# EAGLE library part 111_CUSTOM_PHOENIX_1725724 (library HVIB_v2)
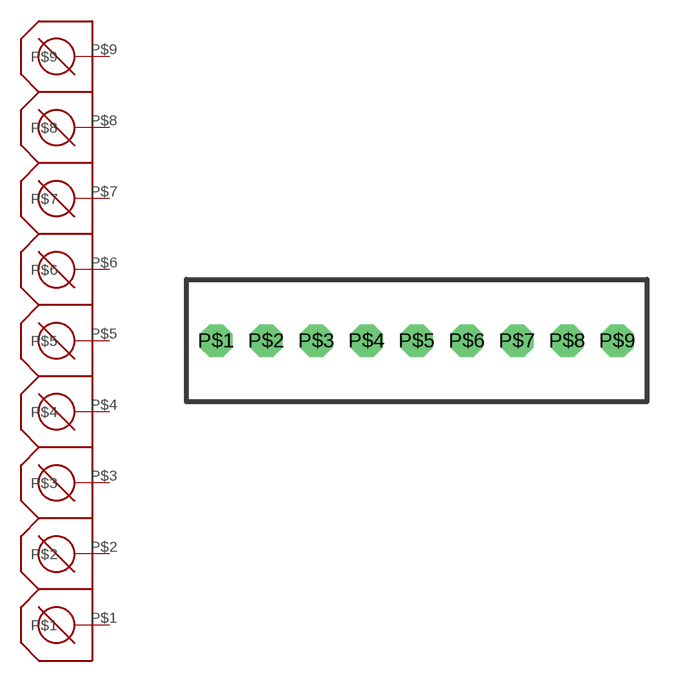
[diagram p0: symbol with the pads of 111_CUSTOM_1725724_FOOT; footprint 111_CUSTOM_1725724_FOOT]

Designator prefix -

## 111_CUSTOM_PHOENIX_1725724  [111_CUSTOM_1725724_FOOT]
P$1  P$1
P$2  P$2
P$3  P$3
P$4  P$4
P$5  P$5
P$6  P$6
P$7  P$7
P$8  P$8
P$9  P$9

## Footprint 111_CUSTOM_1725724_FOOT (pad centres in mm)
drill 1.1 octagon: P$1 0,0; P$2 2.54,0; P$3 5.08,0; P$4 7.62,0; P$5 10.16,0; P$6 12.7,0; P$7 15.24,0; P$8 17.78,0; P$9 20.32,0